# Altium footprint library SIGMA_2D.PcbLib: 200 footprints (part 7 of 13)
Each footprint in its own frame and in the unit in brackets; x right, y up, seen from the top. Pads: shape width x height; smd on the part's side, far side on the other; paste and mask are expansions set on the pad; w line width, h text height; cw(c..) or ccw(c..) is an arc to the next point about the centre after c.
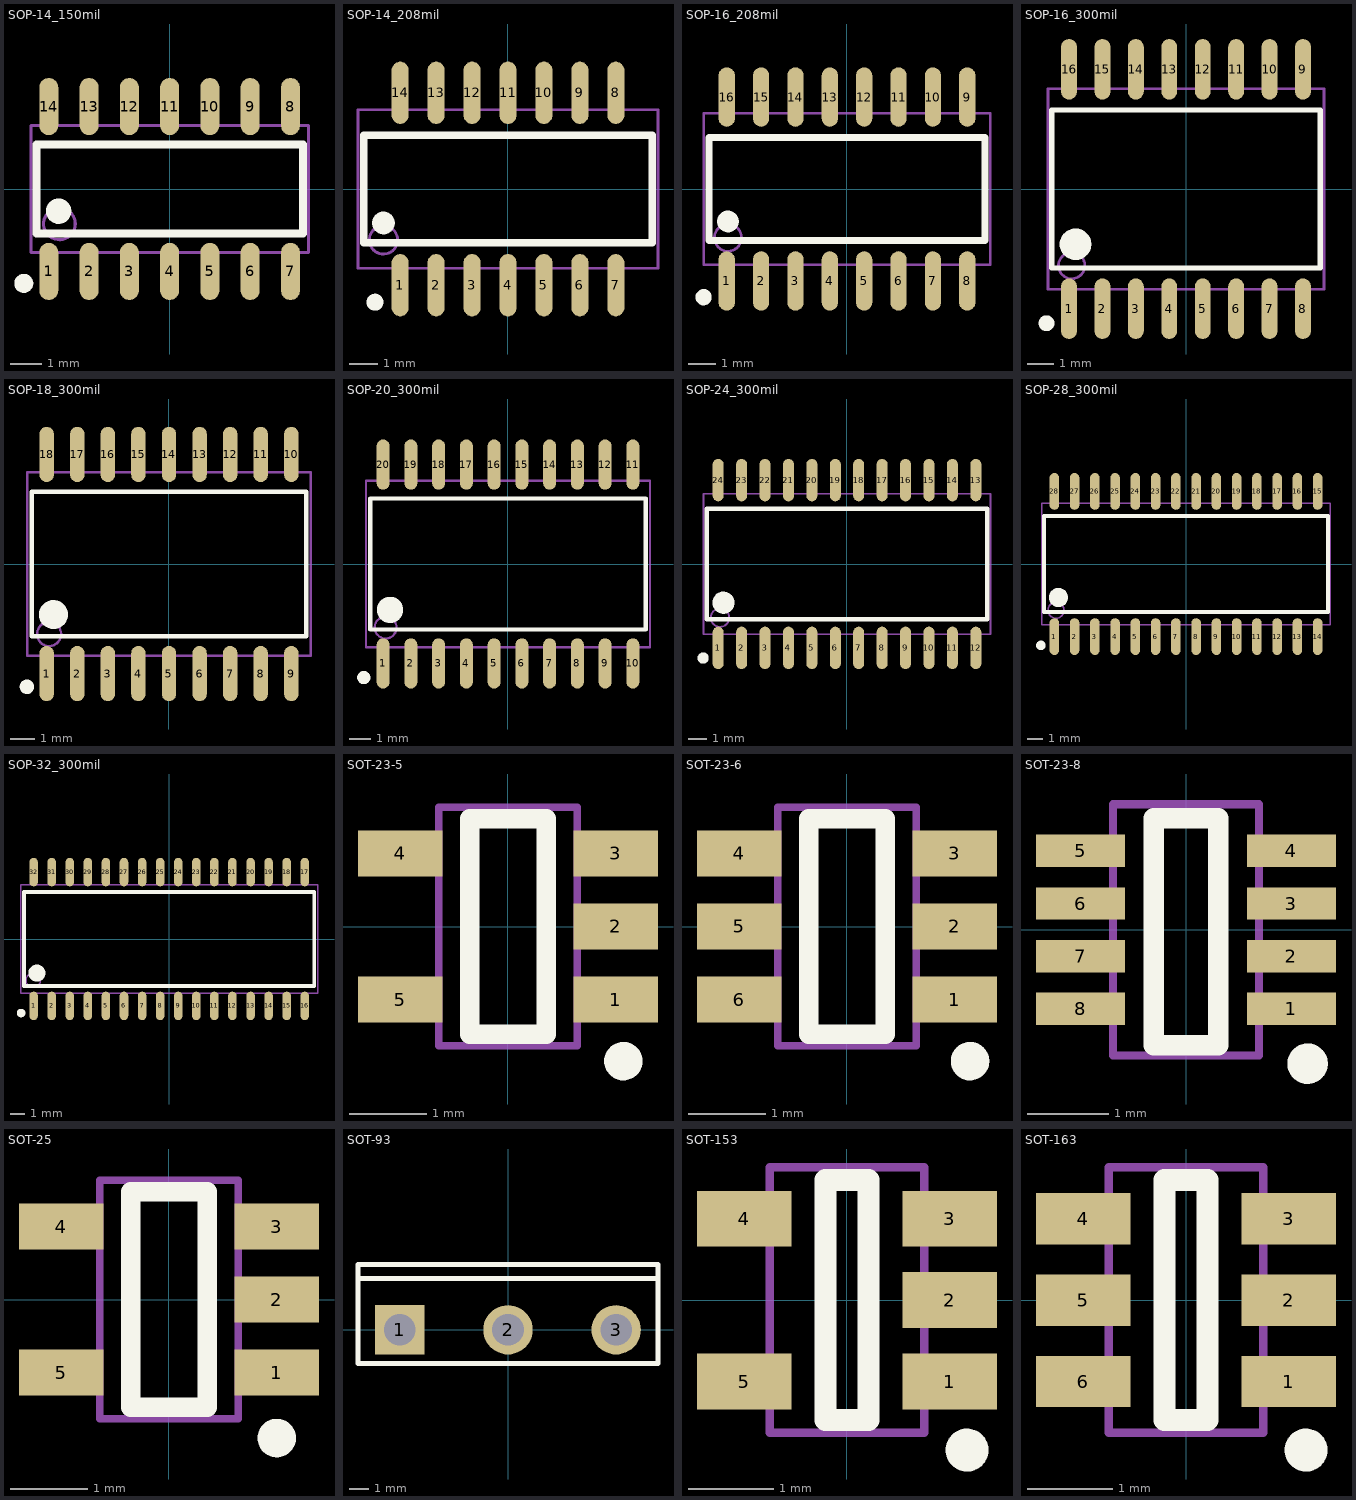
[diagram p6: the footprints below, top view; thin cyan lines are the x and y axes]

## SOP-14_150mil [mm]
pads (14):
  oval 0.6x1.8 smd: 1(-3.81,-2.6) 2(-2.54,-2.6) 3(-1.27,-2.6) 4(0,-2.6) 5(1.27,-2.6) 6(2.54,-2.6) 7(3.81,-2.6) 8(3.81,2.6) 9(2.54,2.6) 10(1.27,2.6) 11(0,2.6) 12(-1.27,2.6) 13(-2.54,2.6) 14(-3.81,2.6)
Top Overlay:
  circle w0.3: c-4.6,-2.975 r0.15
  circle w0.4: c-3.5,-0.7 r0.2
  lines w0.254: -4.2,-1.4 4.2,-1.4 4.2,1.4 -4.2,1.4 -4.2,-1.4
Mechanical 13:
  circle w0.1: c-3.475,-1.1 r0.5
  lines w0.1: -4.375,-2 4.375,-2 4.375,2 -4.375,2 -4.375,-2

## SOP-14_208mil [mm]
pads (14):
  oval 0.6x2.2 smd: 1(-3.81,-3.4) 2(-2.54,-3.4) 3(-1.27,-3.4) 4(0,-3.4) 5(1.27,-3.4) 6(2.54,-3.4) 7(3.81,-3.4) 8(3.81,3.4) 9(2.54,3.4) 10(1.27,3.4) 11(0,3.4) 12(-1.27,3.4) 13(-2.54,3.4) 14(-3.81,3.4)
Top Overlay:
  circle w0.3: c-4.7,-4 r0.15
  circle w0.4: c-4.4,-1.2 r0.2
  lines w0.254: -5.1,-1.9 -5.1,1.9 5.1,1.9 5.1,-1.9 -5.1,-1.9
Mechanical 13:
  circle w0.1: c-4.4,-1.8 r0.5
  lines w0.1: -5.3,-2.8 -5.3,2.8 5.3,2.8 5.3,-2.8 -5.3,-2.8

## SOP-16_208mil [mm]
pads (16):
  oval 0.6x2.2 smd: 1(-4.445,-3.4) 2(-3.175,-3.4) 3(-1.905,-3.4) 4(-0.635,-3.4) 5(0.635,-3.4) 6(1.905,-3.4) 7(3.175,-3.4) 8(4.445,-3.4) 9(4.445,3.4) 10(3.175,3.4) 11(1.905,3.4) 12(0.635,3.4) 13(-0.635,3.4) 14(-1.905,3.4) 15(-3.175,3.4) 16(-4.445,3.4)
Top Overlay:
  circle w0.3: c-5.3,-4 r0.15
  circle w0.4: c-4.4,-1.2 r0.2
  lines w0.254: -5.1,-1.9 -5.1,1.9 5.1,1.9 5.1,-1.9 -5.1,-1.9
Mechanical 13:
  circle w0.1: c-4.4,-1.8 r0.5
  lines w0.1: -5.3,-2.8 -5.3,2.8 5.3,2.8 5.3,-2.8 -5.3,-2.8

## SOP-16_300mil [mm]
pads (16):
  oval 0.6x2.3 smd: 1(-4.445,-4.55) 2(-3.175,-4.55) 3(-1.905,-4.55) 4(-0.635,-4.55) 5(0.635,-4.55) 6(1.905,-4.55) 7(3.175,-4.55) 8(4.445,-4.55) 9(4.445,4.55) 10(3.175,4.55) 11(1.905,4.55) 12(0.635,4.55) 13(-0.635,4.55) 14(-1.905,4.55) 15(-3.175,4.55) 16(-4.445,4.55)
Top Overlay:
  circle w0.6: c-4.2,-2.1 r0.3
  circle w0.3: c-5.3,-5.1 r0.15
  lines w0.2: -5.1,-3 5.1,-3 5.1,3 -5.1,3 -5.1,-3
Mechanical 13:
  circle w0.1: c-4.345,-2.91 r0.5
  lines w0.1: -5.245,-3.81 5.245,-3.81 5.245,3.81 -5.245,3.81 -5.245,-3.81

## SOP-18_300mil [mm]
pads (18):
  oval 0.6x2.3 smd: 1(-5.08,-4.55) 2(-3.81,-4.55) 3(-2.54,-4.55) 4(-1.27,-4.55) 5(0,-4.55) 6(1.27,-4.55) 7(2.54,-4.55) 8(3.81,-4.55) 9(5.08,-4.55) 10(5.08,4.55) 11(3.81,4.55) 12(2.54,4.55) 13(1.27,4.55) 14(0,4.55) 15(-1.27,4.55) 16(-2.54,4.55) 17(-3.81,4.55) 18(-5.08,4.55)
Top Overlay:
  circle w0.6: c-4.8,-2.1 r0.3
  circle w0.3: c-5.9,-5.1 r0.15
  lines w0.2: -5.7,-3 5.7,-3 5.7,3 -5.7,3 -5.7,-3
Mechanical 13:
  circle w0.1: c-4.98,-2.91 r0.5
  lines w0.1: -5.88,-3.81 5.88,-3.81 5.88,3.81 -5.88,3.81 -5.88,-3.81

## SOP-20_300mil [mm]
pads (20):
  oval 0.6x2.3 smd: 1(-5.715,-4.55) 2(-4.445,-4.55) 3(-3.175,-4.55) 4(-1.905,-4.55) 5(-0.635,-4.55) 6(0.635,-4.55) 7(1.905,-4.55) 8(3.175,-4.55) 9(4.445,-4.55) 10(5.715,-4.55) 11(5.715,4.55) 12(4.445,4.55) 13(3.175,4.55) 14(1.905,4.55) 15(0.635,4.55) 16(-0.635,4.55) 17(-1.905,4.55) 18(-3.175,4.55) 19(-4.445,4.55) 20(-5.715,4.55)
Top Overlay:
  circle w0.6: c-5.4,-2.1 r0.3
  circle w0.3: c-6.6,-5.2 r0.15
  lines w0.2: -6.3,-3 -6.3,3 6.3,3 6.3,-3 -6.3,-3
Mechanical 13:
  circle w0.1: c-5.6,-2.91 r0.5
  lines w0.1: -6.5,-3.81 -6.5,3.81 6.5,3.81 6.5,-3.81 -6.5,-3.81

## SOP-24_300mil [mm]
pads (24):
  oval 0.6x2.3 smd: 1(-6.985,-4.55) 2(-5.715,-4.55) 3(-4.445,-4.55) 4(-3.175,-4.55) 5(-1.905,-4.55) 6(-0.635,-4.55) 7(0.635,-4.55) 8(1.905,-4.55) 9(3.175,-4.55) 10(4.445,-4.55) 11(5.715,-4.55) 12(6.985,-4.55) 13(6.985,4.55) 14(5.715,4.55) 15(4.445,4.55) 16(3.175,4.55) 17(1.905,4.55) 18(0.635,4.55) 19(-0.635,4.55) 20(-1.905,4.55) 21(-3.175,4.55) 22(-4.445,4.55) 23(-5.715,4.55) 24(-6.985,4.55)
Top Overlay:
  circle w0.3: c-7.8,-5.1 r0.15
  circle w0.6: c-6.7,-2.1 r0.3
  lines w0.254: -7.6,-3 -7.6,3 7.6,3 7.6,-3 -7.6,-3
Mechanical 13:
  circle w0.1: c-6.885,-2.91 r0.5
  lines w0.1: -7.785,-3.81 -7.785,3.81 7.785,3.81 7.785,-3.81 -7.785,-3.81

## SOP-28_300mil [mm]
pads (28):
  oval 0.6x2.3 smd: 1(-8.255,-4.55) 2(-6.985,-4.55) 3(-5.715,-4.55) 4(-4.445,-4.55) 5(-3.175,-4.55) 6(-1.905,-4.55) 7(-0.635,-4.55) 8(0.635,-4.55) 9(1.905,-4.55) 10(3.175,-4.55) 11(4.445,-4.55) 12(5.715,-4.55) 13(6.985,-4.55) 14(8.255,-4.55) 15(8.255,4.55) 16(6.985,4.55) 17(5.715,4.55) 18(4.445,4.55) 19(3.175,4.55) 20(1.905,4.55) 21(0.635,4.55) 22(-0.635,4.55) 23(-1.905,4.55) 24(-3.175,4.55) 25(-4.445,4.55) 26(-5.715,4.55) 27(-6.985,4.55) 28(-8.255,4.55)
Top Overlay:
  circle w0.6: c-8,-2.1 r0.3
  circle w0.3: c-9.1,-5.1 r0.15
  lines w0.254: -8.9,-3 8.9,-3 8.9,3 -8.9,3 -8.9,-3
Mechanical 13:
  circle w0.1: c-8.15,-2.9 r0.5
  lines w0.1: -9.05,-3.8 9.05,-3.8 9.05,3.8 -9.05,3.8 -9.05,-3.8

## SOP-32_300mil [mm]
pads (32):
  oval 0.6x2 smd: 1(-9.525,-4.7) 2(-8.255,-4.7) 3(-6.985,-4.7) 4(-5.715,-4.7) 5(-4.445,-4.7) 6(-3.175,-4.7) 7(-1.905,-4.7) 8(-0.635,-4.7) 9(0.635,-4.7) 10(1.905,-4.7) 11(3.175,-4.7) 12(4.445,-4.7) 13(5.715,-4.7) 14(6.985,-4.7) 15(8.255,-4.7) 16(9.525,-4.7) 17(9.525,4.7) 18(8.255,4.7) 19(6.985,4.7) 20(5.715,4.7) 21(4.445,4.7) 22(3.175,4.7) 23(1.905,4.7) 24(0.635,4.7) 25(-0.635,4.7) 26(-1.905,4.7) 27(-3.175,4.7) 28(-4.445,4.7) 29(-5.715,4.7) 30(-6.985,4.7) 31(-8.255,4.7) 32(-9.525,4.7)
Top Overlay:
  circle w0.3: c-10.4,-5.2 r0.15
  circle w0.6: c-9.3,-2.4 r0.3
  lines w0.254: -10.2,-3.3 10.2,-3.3 10.2,3.3 -10.2,3.3 -10.2,-3.3
Mechanical 13:
  circle w0.1: c-9.54,-2.9 r0.5
  lines w0.1: -10.44,-3.8 10.44,-3.8 10.44,3.8 -10.44,3.8 -10.44,-3.8

## SOT-23-5 [mm]
pads (5):
  rect 1.1x0.6 smd: 1(1.4,-0.95) 2(1.4,0) 3(1.4,0.95) 4(-1.4,0.95) 5(-1.4,-0.95)
Top Overlay:
  circle w0.25: c1.5,-1.75 r0.125
  lines w0.254: -0.5,-1.4 -0.5,1.4 0.5,1.4 0.5,-1.4 -0.5,-1.4
Mechanical 13:
  lines w0.1: -0.9,-1.55 0.9,-1.55 0.9,1.55 -0.9,1.55 -0.9,-1.55

## SOT-23-6 [mm]
pads (6):
  rect 1.1x0.6 smd: 1(1.4,-0.95) 2(1.4,0) 3(1.4,0.95) 4(-1.4,0.95) 5(-1.4,0) 6(-1.4,-0.95)
Top Overlay:
  circle w0.25: c1.6,-1.75 r0.125
  lines w0.254: -0.5,-1.4 -0.5,1.4 0.5,1.4 0.5,-1.4 -0.5,-1.4
Mechanical 13:
  lines w0.1: -0.9,-1.55 -0.9,1.55 0.9,1.55 0.9,-1.55 -0.9,-1.55

## SOT-23-8 [mm]
pads (8):
  rect 1.1x0.4 smd mask+0.051: 1(1.3,-0.975) 2(1.3,-0.325) 3(1.3,0.325) 4(1.3,0.975) 5(-1.3,0.975) 6(-1.3,0.325) 7(-1.3,-0.325) 8(-1.3,-0.975)
Top Overlay:
  circle w0.25: c1.5,-1.65 r0.125
  lines w0.254: -0.4,-1.425 0.4,-1.425 0.4,1.375 -0.4,1.375 -0.4,-1.425
Mechanical 13:
  lines w0.1: -0.9,-1.55 -0.9,1.55 0.9,1.55 0.9,-1.55 -0.9,-1.55

## SOT-25 [mm]
pads (5):
  rect 1.1x0.6 smd: 1(1.4,-0.95) 2(1.4,0) 3(1.4,0.95) 4(-1.4,0.95) 5(-1.4,-0.95)
Top Overlay:
  circle w0.25: c1.4,-1.8 r0.125
  lines w0.254: -0.5,-1.4 -0.5,1.4 0.5,1.4 0.5,-1.4 -0.5,-1.4
Mechanical 13:
  lines w0.1: -0.9,-1.55 0.9,-1.55 0.9,1.55 -0.9,1.55 -0.9,-1.55

## SOT-93 [mm]
pads (3):
  rect 2.5x2.5 hole 1.6: 1(-5.48,0)
  round 2.5 hole 1.6: 2(0,0) 3(5.48,0)
Top Overlay:
  lines w0.254: -7.6,2.6 7.6,2.6 ; -7.6,-1.7 -7.6,3.3 7.6,3.3 7.6,-1.7 -7.6,-1.7

## SOT-153 [mm]
pads (5):
  rect 1.1x0.65 smd mask+0.051: 1(1.2,-0.95) 2(1.2,0) 3(1.2,0.95) 4(-1.2,0.95) 5(-1.2,-0.95)
Top Overlay:
  circle w0.25: c1.4,-1.75 r0.125
  lines w0.254: -0.25,-1.4 -0.25,1.4 0.25,1.4 0.25,-1.4 -0.25,-1.4
Mechanical 13:
  lines w0.1: -0.9,-1.55 0.9,-1.55 0.9,1.55 -0.9,1.55 -0.9,-1.55

## SOT-163 [mm]
pads (6):
  rect 1.1x0.6 smd: 1(1.2,-0.95) 2(1.2,0) 3(1.2,0.95) 4(-1.2,0.95) 5(-1.2,0) 6(-1.2,-0.95)
Top Overlay:
  circle w0.25: c1.4,-1.75 r0.125
  lines w0.254: -0.25,-1.4 0.25,-1.4 0.25,1.4 -0.25,1.4 -0.25,-1.4
Mechanical 13:
  lines w0.1: -0.9,-1.55 -0.9,1.55 0.9,1.55 0.9,-1.55 -0.9,-1.55